# Altium schematic symbol library SFH_4545.SchLib: 1 symbol
Pins are listed as number, name and electrical type; pins without a type are passive.

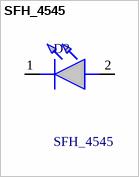
[diagram p0: symbol SFH_4545]

## SFH_4545
designator D?
SFH 4545 Osram Opto, 950nm IR LED, 5 mm Through Hole package; Manufacturer_Name: ams OSRAM; Geometry.Height: 8.3mm; Mouser Part Number: 720-SFH4545; Mouser Price/Stock: https://www.mouser.co.uk/ProductDetail/ams-OSRAM/SFH-4545?qs=VcOkZLzzaubOJpq6Xyji1A%3D%3D; Manufacturer_Part_Number: SFH 4545; Datasheet Link: https://datasheet.datasheetarchive.com/originals/distributors/DKDS41/DSANUWW0036915.pdf
footprint SFH4545
pins: 1 K, 2 A